# Altium integrated library 0522070633.IntLib: 1 symbol
Pins are listed as number, name and electrical type; pins without a type are passive.

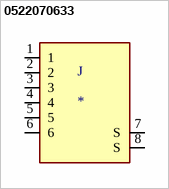
[diagram p0: symbol 0522070633]

## 0522070633
designator J
6 Position FFC, FPC Connector Contacts, Top 0.039 _1.00mm_ Surface Mount, Right Angle; MP: 0522070633; MF: Molex; Digi-Key_Purchase_URL: https://www.digikey.com/product-detail/en/molex/0522070633/WM10938CT-ND/5170939?utm_source=snapeda&utm_medium=aggregator&utm_campaign=symbol; Digi-Key_Part_Number: WM10938CT-ND; Value: *; SnapEDA_Link: https://www.snapeda.com/parts/0522070633/Molex/view-part/1675183/?ref=snap; Package: None
footprint MOLEX_0522070633
pins: 1, 2, 3, 4, 5, 6, 7 S (power), 8 S (power)